# EAGLE library part 720X (library dec-con)
720x Switch with mounting brackets.
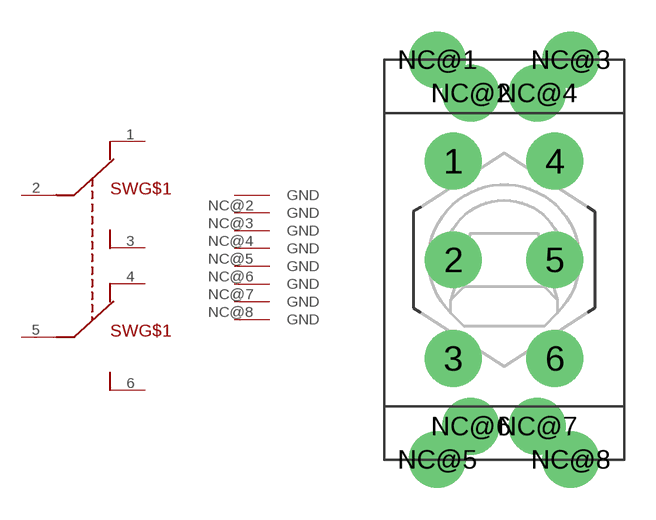
[diagram p109: symbol with the pads of 7209MD9V3; footprint 7209MD9V3]

Designator prefix SW; gates G$1=DPDT G$2=NC8

## 720X  [7209MD9V3]
1  G$1:A1
2  G$1:A2
3  G$1:A3
4  G$1:B1
5  G$1:B2
6  G$1:B3
NC@1  G$2:GND  pwr
NC@2  G$2:GND  pwr
NC@3  G$2:GND  pwr
NC@4  G$2:GND  pwr
NC@5  G$2:GND  pwr
NC@6  G$2:GND  pwr
NC@7  G$2:GND  pwr
NC@8  G$2:GND  pwr

## Footprint 7209MD9V3 (pad centres in mm)
7201 footprint for V2, V3 mounting brackets.
drill 1.803: 1 -2.413,4.699; 2 -2.413,0; 3 -2.413,-4.699; 4 2.413,4.699; 5 2.413,0; 6 2.413,-4.699; NC@1 -3.175,9.525; NC@2 -1.587,7.938; NC@3 3.175,9.525; NC@4 1.587,7.938; NC@5 -3.175,-9.525; NC@6 -1.587,-7.938; NC@7 1.587,-7.938; NC@8 3.175,-9.525